# Altium schematic symbol library lm 7805.SchLib: 1 symbol
Pins are listed as number, name and electrical type; pins without a type are passive.

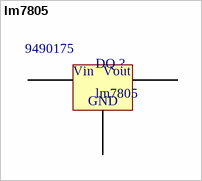
[diagram p0: symbol lm7805]

## lm7805
designator DQ ?  Supplier Part Number 1: 9490175
Supplier 1: Farnell
footprint TO-220AB (TO, Thru-Hole, Vertical, Heatsink Mounted; 3 In-Line Leads; Pitch 2.54 mm)
pins: 1 Vin, 2 GND, 3 Vuot
text: Vout